# Altium schematic symbol library Inductors.SchLib: 2 symbols
Pins are listed as number, name and electrical type; pins without a type are passive.

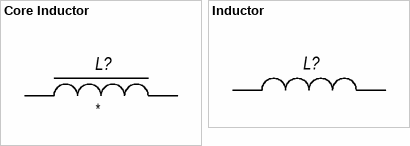
[diagram p0: symbols Core Inductor to Inductor]

## Core Inductor
designator L?
Designer: Alexei Kazachkov; Parameter 2: 31.10.2021; Inductance: *
pins: 1, 2

## Inductor
designator L?  (value not drawn)
pins: 1, 2